# Altium footprint library Encoder.PcbLib: 1 footprints
Each footprint in its own frame and in the unit in brackets; x right, y up, seen from the top. Pads: shape width x height; smd on the part's side, far side on the other; paste and mask are expansions set on the pad; w line width, h text height; cw(c..) or ccw(c..) is an arc to the next point about the centre after c.
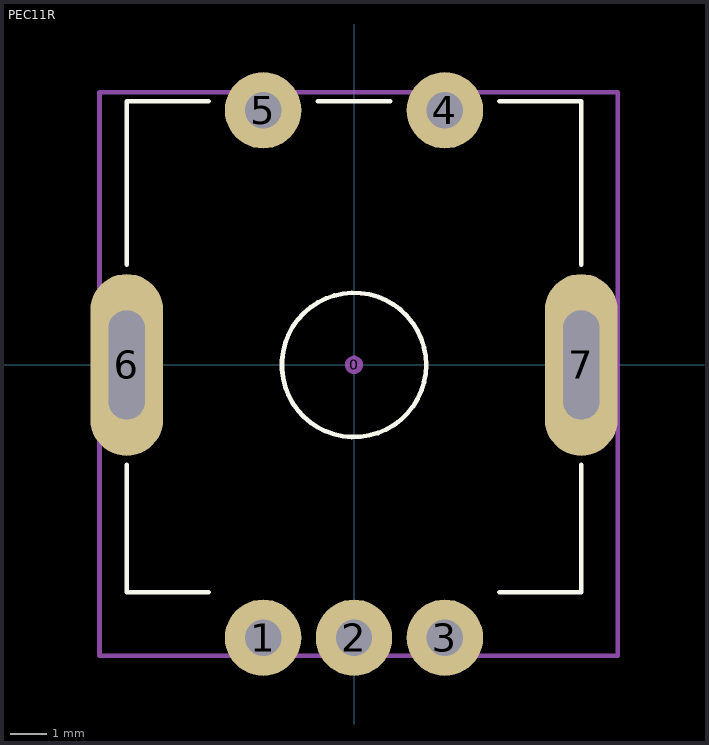
[diagram p0: the footprint, top view; thin cyan lines are the x and y axes]

## PEC11R [mm]
pads (8):
  round 0.508 on Mech15: 0(0,0)
  round 2.1 hole 1: 1(-2.5,-7.5) 2(0,-7.5) 3(2.5,-7.5) 4(2.5,7) 5(-2.5,7)
  oval 2x5 hole 1 slot 3 at 90 deg: 6(-6.25,0) 7(6.25,0)
Top Overlay:
  circle w0.127: c0,0 r1.984
  lines w0.127: -6.25,-2.75 -6.25,-6.25 -4,-6.25 ; -6.25,2.75 -6.25,7.25 -4,7.25 ; -1,7.25 1,7.25 ; 4,-6.25 6.25,-6.25 6.25,-2.75 ; 4,7.25 6.25,7.25 6.25,2.75
Mechanical 13:
  lines w0.127: -7,-8 -7,7.5 7.25,7.5 7.25,-8 -7,-8
3D body "User Library-Encoder Alpha RE111F-41B1N-15F-20P.SLDPRT": height 16.7, standoff -2.78, extent -6.822,-7.73 6.832,7.1